# EAGLE library part CP2130 (library Semiconductors > Integrated Circuits - ICs > Interface ICs > USB Interface IC)
SINGLE-CHIP USB-TO-SPI BRIDGE
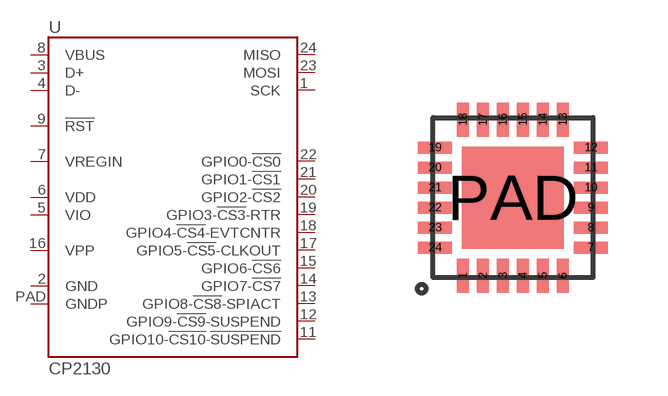
[diagram p3: symbol with the pads of QFN24; footprint QFN24]

Designator prefix U

## CP2130  [QFN24]
1  SCK
2  GND
3  D+
4  D-
5  VIO
6  VDD
7  VREGIN
8  VBUS
9  !RST
11  GPIO10-!CS10!-!SUSPEND
12  GPIO9-!CS9!-SUSPEND
13  GPIO8-!CS8!-SPIACT
14  GPIO7-!CS7
15  GPIO6-!CS6
16  VPP
17  GPIO5-!CS5!-CLKOUT
18  GPIO4-!CS4!-EVTCNTR
19  GPIO3-!CS3!-RTR
20  GPIO2-!CS2
21  GPIO1-!CS1
22  GPIO0-!CS0
23  MOSI
24  MISO
PAD  GNDP

## Footprint QFN24 (pad centres in mm)
smd 0.3 x 0.85: 1 -1.25,-1.95; 2 -0.75,-1.95; 3 -0.25,-1.95; 4 0.25,-1.95; 5 0.75,-1.95; 6 1.25,-1.95; 13 1.25,1.95; 14 0.75,1.95; 15 0.25,1.95; 16 -0.25,1.95; 17 -0.75,1.95; 18 -1.25,1.95
smd 0.85 x 0.3: 7 1.95,-1.25; 8 1.95,-0.75; 9 1.95,-0.25; 10 1.95,0.25; 11 1.95,0.75; 12 1.95,1.25; 19 -1.95,1.25; 20 -1.95,0.75; 21 -1.95,0.25; 22 -1.95,-0.25; 23 -1.95,-0.75; 24 -1.95,-1.25
smd 2.55 x 2.55: PAD 0,0